# Altium schematic symbol library SCH - MCU - ATTINY - MICROCHIP ATTINY441-SSU SOIC14.SchLib: 1 symbol
Pins are listed as number, name and electrical type; pins without a type are passive.

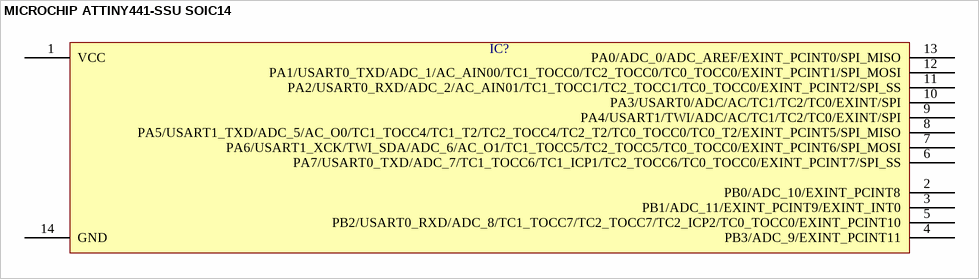
[diagram p0: symbol MICROCHIP ATTINY441-SSU SOIC14]

## MICROCHIP ATTINY441-SSU SOIC14
designator IC?  (value not drawn)
pins: 1 VCC, 2 PB0/ADC_10/EXINT_PCINT8, 3 PB1/ADC_11/EXINT_PCINT9/EXINT_INT0, 4 PB3/ADC_9/EXINT_PCINT11, 5 PB2/USART0_RXD/ADC_8/TC1_TOCC7/TC2_TOCC7/TC2_ICP2/TC0_TOCC0/EXINT_PCINT10, 6 PA7/USART0_TXD/ADC_7/TC1_TOCC6/TC1_ICP1/TC2_TOCC6/TC0_TOCC0/EXINT_PCINT7/SPI_SS, 7 PA6/USART1_XCK/TWI_SDA/ADC_6/AC_O1/TC1_TOCC5/TC2_TOCC5/TC0_TOCC0/EXINT_PCINT6/SPI_MOSI, 8 PA5/USART1_TXD/ADC_5/AC_O0/TC1_TOCC4/TC1_T2/TC2_TOCC4/TC2_T2/TC0_TOCC0/TC0_T2/EXINT_PCINT5/SPI_MISO, 9 PA4/USART1/TWI/ADC/AC/TC1/TC2/TC0/EXINT/SPI, 10 PA3/USART0/ADC/AC/TC1/TC2/TC0/EXINT/SPI, 11 PA2/USART0_RXD/ADC_2/AC_AIN01/TC1_TOCC1/TC2_TOCC1/TC0_TOCC0/EXINT_PCINT2/SPI_SS, 12 PA1/USART0_TXD/ADC_1/AC_AIN00/TC1_TOCC0/TC2_TOCC0/TC0_TOCC0/EXINT_PCINT1/SPI_MOSI, 13 PA0/ADC_0/ADC_AREF/EXINT_PCINT0/SPI_MISO, 14 GND